# Altium schematic symbol library WP-SMRA.SchLib: 18 symbols
Pins are listed as number, name and electrical type; pins without a type are passive.

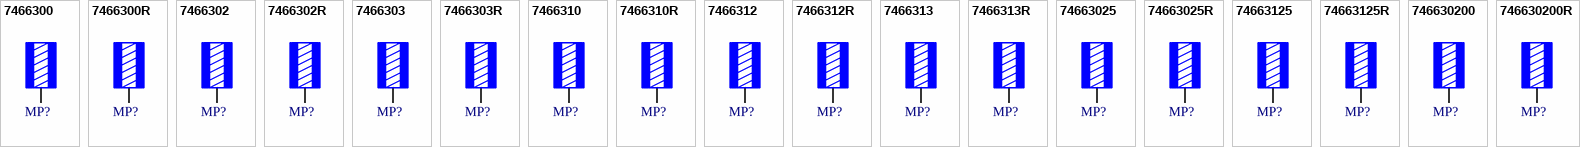
[diagram p0: symbols 7466300 to 746630200R]

## 7466300
designator MP?, comment ID 3.3mm  (value not drawn)
WP-SMRA REDCUBE SMT Right Angled without pins, ID 3.3mm, 50A; Manufacturer Part Number: 7466300; Manufacturer: Wurth Elektronik; Surface: Tin; ComponentLink1Description: Website Link; ComponentLink1URL: https://www.we-online.com/redexpert/article/7466300?ad; ComponentLink2Description: Datasheet Link; ComponentLink2URL: https://www.we-online.com/redexpert/spec/7466300?ad; Category: REDCUBE SMT; Match Code: WP-SMRA; Mount: Surface Mount; Operating Temperature Max: 150°C; Operating Temperature Min: -55°C; Packaging: Bulk; Height: 5mm; Inner Diameter: 3.3mm; Material: Brass; Rated Current: 50A
footprint 7466300
pins: 1

## 7466300R
designator MP?, comment ID 3.3mm  (value not drawn)
WP-SMRA REDCUBE SMT Right Angled without pins, ID 3.3mm, 50A; Manufacturer Part Number: 7466300R; Manufacturer: Wurth Elektronik; Surface: Tin; ComponentLink1Description: Website Link; ComponentLink1URL: https://www.we-online.com/redexpert/article/7466300R?ad; ComponentLink2Description: Datasheet Link; ComponentLink2URL: https://www.we-online.com/redexpert/spec/7466300R?ad; Category: REDCUBE SMT; Match Code: WP-SMRA; Mount: Surface Mount; Operating Temperature Max: 150°C; Operating Temperature Min: -55°C; Packaging: Tape and Reel; Height: 5mm; Inner Diameter: 3.3mm; Material: Brass; Rated Current: 50A
footprint 7466300
pins: 1

## 7466302
designator MP?, comment M2  (value not drawn)
WP-SMRA REDCUBE SMT Right Angled without pins, M2, 50A; Manufacturer Part Number: 7466302; Manufacturer: Wurth Elektronik; Surface: Tin; ComponentLink1Description: Website Link; ComponentLink1URL: https://www.we-online.com/redexpert/article/7466302?ad; ComponentLink2Description: Datasheet Link; ComponentLink2URL: https://www.we-online.com/redexpert/spec/7466302?ad; Category: REDCUBE SMT; Match Code: WP-SMRA; Mount: Surface Mount; Operating Temperature Max: 150°C; Operating Temperature Min: -55°C; Packaging: Bulk; Height: 7mm; Material: Brass; Rated Current: 50A; Thread Size: M2
footprint 7466302
pins: 1

## 7466302R
designator MP?, comment M2  (value not drawn)
WP-SMRA REDCUBE SMT Right Angled without pins, M2, 50A; Manufacturer Part Number: 7466302R; Manufacturer: Wurth Elektronik; Surface: Tin; ComponentLink1Description: Website Link; ComponentLink1URL: https://www.we-online.com/redexpert/article/7466302R?ad; ComponentLink2Description: Datasheet Link; ComponentLink2URL: https://www.we-online.com/redexpert/spec/7466302R?ad; Category: REDCUBE SMT; Match Code: WP-SMRA; Mount: Surface Mount; Operating Temperature Max: 150°C; Operating Temperature Min: -55°C; Packaging: Tape and Reel; Height: 7mm; Material: Brass; Rated Current: 50A; Thread Size: M2
footprint 7466302
pins: 1

## 7466303
designator MP?, comment M3  (value not drawn)
WP-SMRA REDCUBE SMT Right Angled without pins, M3, 50A; Manufacturer Part Number: 7466303; Manufacturer: Wurth Elektronik; Surface: Tin; ComponentLink1Description: Website Link; ComponentLink1URL: https://www.we-online.com/redexpert/article/7466303?ad; ComponentLink2Description: Datasheet Link; ComponentLink2URL: https://www.we-online.com/redexpert/spec/7466303?ad; Category: REDCUBE SMT; Match Code: WP-SMRA; Mount: Surface Mount; Operating Temperature Max: 150°C; Operating Temperature Min: -55°C; Packaging: Bulk; Height: 5mm; Material: Brass; Rated Current: 50A; Thread Size: M3
footprint 7466303
pins: 1

## 7466303R
designator MP?, comment M3  (value not drawn)
WP-SMRA REDCUBE SMT Right Angled without pins, M3, 50A; Manufacturer Part Number: 7466303R; Manufacturer: Wurth Elektronik; Surface: Tin; ComponentLink1Description: Website Link; ComponentLink1URL: https://www.we-online.com/redexpert/article/7466303R?ad; ComponentLink2Description: Datasheet Link; ComponentLink2URL: https://www.we-online.com/redexpert/spec/7466303R?ad; Category: REDCUBE SMT; Match Code: WP-SMRA; Mount: Surface Mount; Operating Temperature Max: 150°C; Operating Temperature Min: -55°C; Packaging: Tape and Reel; Height: 5mm; Material: Brass; Rated Current: 50A; Thread Size: M3
footprint 7466303
pins: 1

## 7466310
designator MP?, comment ID 3.3mm  (value not drawn)
WP-SMRA REDCUBE SMT Right Angled with pins, ID 3.3mm, 50A; Manufacturer Part Number: 7466310; Manufacturer: Wurth Elektronik; Surface: Tin; ComponentLink1Description: Website Link; ComponentLink1URL: https://www.we-online.com/redexpert/article/7466310?ad; ComponentLink2Description: Datasheet Link; ComponentLink2URL: https://www.we-online.com/redexpert/spec/7466310?ad; Category: REDCUBE SMT; Match Code: WP-SMRA; Mount: Surface Mount; Operating Temperature Max: 150°C; Operating Temperature Min: -55°C; Packaging: Bulk; Height: 7mm; Inner Diameter: 3.3mm; Material: Brass; Rated Current: 50A
footprint 7466310
pins: 1

## 7466310R
designator MP?, comment ID 3.3mm  (value not drawn)
WP-SMRA REDCUBE SMT Right Angled with pins, ID 3.3mm, 50A; Manufacturer Part Number: 7466310R; Manufacturer: Wurth Elektronik; Surface: Tin; ComponentLink1Description: Website Link; ComponentLink1URL: https://www.we-online.com/redexpert/article/7466310R?ad; ComponentLink2Description: Datasheet Link; ComponentLink2URL: https://www.we-online.com/redexpert/spec/7466310R?ad; Category: REDCUBE SMT; Match Code: WP-SMRA; Mount: Surface Mount; Operating Temperature Max: 150°C; Operating Temperature Min: -55°C; Packaging: Tape and Reel; Height: 7mm; Inner Diameter: 3.3mm; Material: Brass; Rated Current: 50A
footprint 7466310
pins: 1

## 7466312
designator MP?, comment M2  (value not drawn)
WP-SMRA REDCUBE SMT Right Angled with pins, M2, 50A; Manufacturer Part Number: 7466312; Manufacturer: Wurth Elektronik; Surface: Tin; ComponentLink1Description: Website Link; ComponentLink1URL: https://www.we-online.com/redexpert/article/7466312?ad; ComponentLink2Description: Datasheet Link; ComponentLink2URL: https://www.we-online.com/redexpert/spec/7466312?ad; Category: REDCUBE SMT; Match Code: WP-SMRA; Mount: Surface Mount; Operating Temperature Max: 150°C; Operating Temperature Min: -55°C; Packaging: Bulk; Height: 5.5mm; Material: Brass; Rated Current: 50A; Thread Size: M2
footprint 7466312
pins: 1

## 7466312R
designator MP?, comment M2  (value not drawn)
WP-SMRA REDCUBE SMT Right Angled with pins, M2, 50A; Manufacturer Part Number: 7466312R; Manufacturer: Wurth Elektronik; Surface: Tin; ComponentLink1Description: Website Link; ComponentLink1URL: https://www.we-online.com/redexpert/article/7466312R?ad; ComponentLink2Description: Datasheet Link; ComponentLink2URL: https://www.we-online.com/redexpert/spec/7466312R?ad; Category: REDCUBE SMT; Match Code: WP-SMRA; Mount: Surface Mount; Operating Temperature Max: 150°C; Operating Temperature Min: -55°C; Packaging: Tape and Reel; Height: 5.5mm; Material: Brass; Rated Current: 50A; Thread Size: M2
footprint 7466312
pins: 1

## 7466313
designator MP?, comment M3  (value not drawn)
WP-SMRA REDCUBE SMT Right Angled with pins, M3, 50A; Manufacturer Part Number: 7466313; Manufacturer: Wurth Elektronik; Surface: Tin; ComponentLink1Description: Website Link; ComponentLink1URL: https://www.we-online.com/redexpert/article/7466313?ad; ComponentLink2Description: Datasheet Link; ComponentLink2URL: https://www.we-online.com/redexpert/spec/7466313?ad; Category: REDCUBE SMT; Match Code: WP-SMRA; Mount: Surface Mount; Operating Temperature Max: 150°C; Operating Temperature Min: -55°C; Packaging: Bulk; Height: 7mm; Material: Brass; Rated Current: 50A; Thread Size: M3
footprint 7466313
pins: 1

## 7466313R
designator MP?, comment M3  (value not drawn)
WP-SMRA REDCUBE SMT Right Angled with pins, M3, 50A; Manufacturer Part Number: 7466313R; Manufacturer: Wurth Elektronik; Surface: Tin; ComponentLink1Description: Website Link; ComponentLink1URL: https://www.we-online.com/redexpert/article/7466313R?ad; ComponentLink2Description: Datasheet Link; ComponentLink2URL: https://www.we-online.com/redexpert/spec/7466313R?ad; Category: REDCUBE SMT; Match Code: WP-SMRA; Mount: Surface Mount; Operating Temperature Max: 150°C; Operating Temperature Min: -55°C; Packaging: Tape and Reel; Height: 7mm; Material: Brass; Rated Current: 50A; Thread Size: M3
footprint 7466313
pins: 1

## 74663025
designator MP?, comment M2.5  (value not drawn)
WP-SMRA REDCUBE SMT Right Angled without pins, M2.5, 50A; Manufacturer Part Number: 74663025; Manufacturer: Wurth Elektronik; Surface: Tin; ComponentLink1Description: Website Link; ComponentLink1URL: https://www.we-online.com/redexpert/article/74663025?ad; ComponentLink2Description: Datasheet Link; ComponentLink2URL: https://www.we-online.com/redexpert/spec/74663025?ad; Category: REDCUBE SMT; Match Code: WP-SMRA; Mount: Surface Mount; Operating Temperature Max: 150°C; Operating Temperature Min: -55°C; Packaging: Bulk; Height: 7mm; Material: Brass; Rated Current: 50A; Thread Size: M2.5
footprint 74663025
pins: 1

## 74663025R
designator MP?, comment M2.5  (value not drawn)
WP-SMRA REDCUBE SMT Right Angled without pins, M2.5, 50A; Manufacturer Part Number: 74663025R; Manufacturer: Wurth Elektronik; Surface: Tin; ComponentLink1Description: Website Link; ComponentLink1URL: https://www.we-online.com/redexpert/article/74663025R?ad; ComponentLink2Description: Datasheet Link; ComponentLink2URL: https://www.we-online.com/redexpert/spec/74663025R?ad; Category: REDCUBE SMT; Match Code: WP-SMRA; Mount: Surface Mount; Operating Temperature Max: 150°C; Operating Temperature Min: -55°C; Packaging: Tape and Reel; Height: 7mm; Material: Brass; Rated Current: 50A; Thread Size: M2.5
footprint 74663025
pins: 1

## 74663125
designator MP?, comment M2.5  (value not drawn)
WP-SMRA REDCUBE SMT Right Angled with pins, M2.5, 50A; Manufacturer Part Number: 74663125; Manufacturer: Wurth Elektronik; Surface: Tin; ComponentLink1Description: Website Link; ComponentLink1URL: https://www.we-online.com/redexpert/article/74663125?ad; ComponentLink2Description: Datasheet Link; ComponentLink2URL: https://www.we-online.com/redexpert/spec/74663125?ad; Category: REDCUBE SMT; Match Code: WP-SMRA; Mount: Surface Mount; Operating Temperature Max: 150°C; Operating Temperature Min: -55°C; Packaging: Bulk; Height: 5.5mm; Material: Brass; Rated Current: 50A; Thread Size: M2.5
footprint 74663125
pins: 1

## 74663125R
designator MP?, comment M2.5  (value not drawn)
WP-SMRA REDCUBE SMT Right Angled with pins, M2.5, 50A; Manufacturer Part Number: 74663125R; Manufacturer: Wurth Elektronik; Surface: Tin; ComponentLink1Description: Website Link; ComponentLink1URL: https://www.we-online.com/redexpert/article/74663125R?ad; ComponentLink2Description: Datasheet Link; ComponentLink2URL: https://www.we-online.com/redexpert/spec/74663125R?ad; Category: REDCUBE SMT; Match Code: WP-SMRA; Mount: Surface Mount; Operating Temperature Max: 150°C; Operating Temperature Min: -55°C; Packaging: Tape and Reel; Height: 5.5mm; Material: Brass; Rated Current: 50A; Thread Size: M2.5
footprint 74663125
pins: 1

## 746630200
designator MP?, comment M2  (value not drawn)
WP-SMRA REDCUBE SMT Right Angled without pins, M2, 50A; Manufacturer Part Number: 746630200; Manufacturer: Wurth Elektronik; Surface: Tin; ComponentLink1Description: Website Link; ComponentLink1URL: https://www.we-online.com/redexpert/article/746630200?ad; ComponentLink2Description: Datasheet Link; ComponentLink2URL: https://www.we-online.com/redexpert/spec/746630200?ad; Category: REDCUBE SMT; Match Code: WP-SMRA; Mount: Surface Mount; Operating Temperature Max: 150°C; Operating Temperature Min: -55°C; Packaging: Bulk; Height: 7mm; Material: Brass; Rated Current: 50A; Thread Size: M2
footprint 746630200
pins: 1

## 746630200R
designator MP?, comment M2  (value not drawn)
WP-SMRA REDCUBE SMT Right Angled without pins, M2, 50A; Manufacturer Part Number: 746630200R; Manufacturer: Wurth Elektronik; Surface: Tin; ComponentLink1Description: Website Link; ComponentLink1URL: https://www.we-online.com/redexpert/article/746630200R?ad; ComponentLink2Description: Datasheet Link; ComponentLink2URL: https://www.we-online.com/redexpert/spec/746630200R?ad; Category: REDCUBE SMT; Match Code: WP-SMRA; Mount: Surface Mount; Operating Temperature Max: 150°C; Operating Temperature Min: -55°C; Packaging: Tape and Reel; Height: 7mm; Material: Brass; Rated Current: 50A; Thread Size: M2
footprint 746630200
pins: 1